# EAGLE library part TPS60313 (library masterclock)
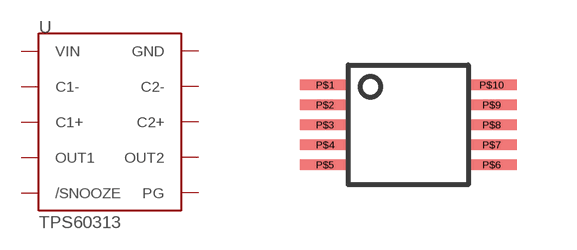
[diagram p3: symbol with the pads of MSOP10; footprint MSOP10]

Designator prefix -

## TPS60313  [MSOP10]
P$1  /SNOOZE
P$2  C1-
P$3  VIN  pwr
P$4  C1+
P$5  OUT1
P$6  OUT2
P$7  C2+
P$8  C2-
P$9  GND  pwr
P$10  PG

## Footprint MSOP10 (pad centres in mm)
smd 1.27 x 0.27: P$1 -2.083,1; P$2 -2.083,0.5; P$3 -2.083,0; P$4 -2.083,-0.5; P$5 -2.083,-1; P$6 2.083,-1; P$7 2.083,-0.5; P$8 2.083,0; P$9 2.083,0.5; P$10 2.083,1